# Altium schematic symbol library Transistors.SchLib: 43 symbols
Pins are listed as number, name and electrical type; pins without a type are passive.

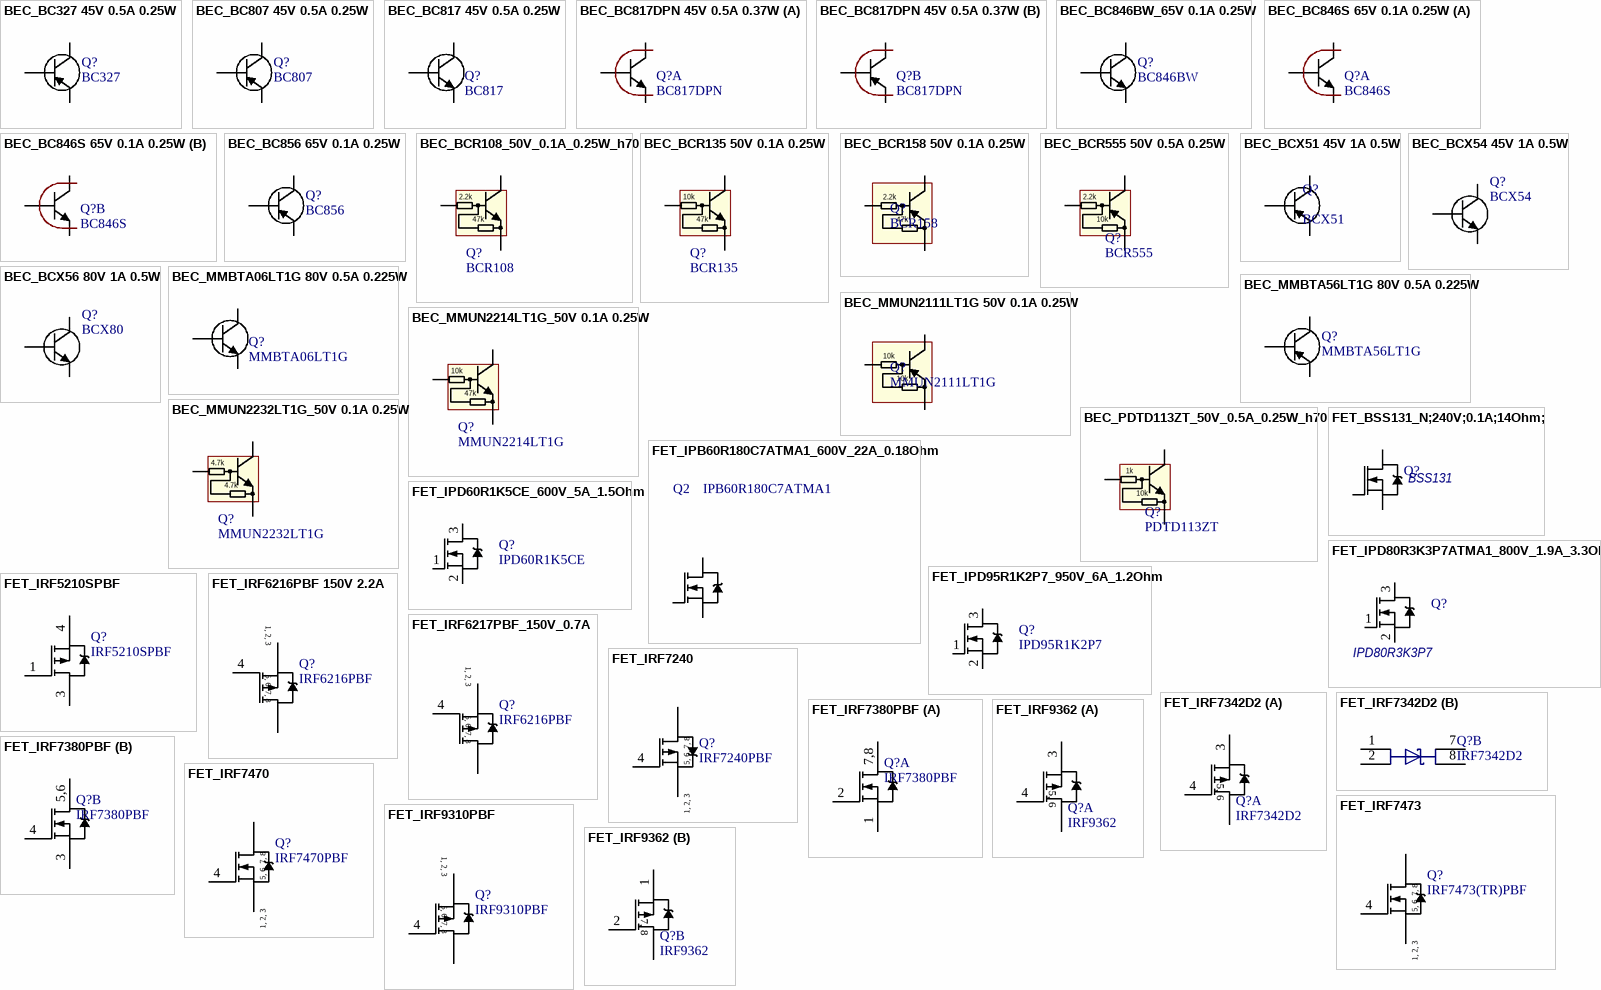
[diagram p0: symbols BEC_BC327 45V 0.5A 0.25W to FET_IRF9362]

## BEC_BC327 45V 0.5A 0.25W
designator Q?, comment BC327
Транзистор PNP; Variant1: BC337 (h=100-600); Variant2: BC327-16 (h=100-250); Variant3: BC327-25 (h=160-400); Variant4: BC327-40 (h=250-600); HelpURL: \\fileserver\библиотека\Unicont SPb\Equipment\Техническая документация\BC807_BC807W_BC327.pdf
footprint TO_92 LINE (TO, Flat Index; 3 In-Line, Axial Leads; Body Dia. 4.6mm; Leads 0.41 x 0.39 mm (max))
pins: 1 E, 2 B, 3 C

## BEC_BC807 45V 0.5A 0.25W
designator Q?, comment BC807
Транзистор PNP; Variant1: BC807 (h=100-600); Variant2: BC807-16 (h=100-250); Variant3: BC807-25 (h=160-400); Variant4: BC807-40 (h=250-600); HelpURL: \\fileserver\библиотека\Unicont SPb\Equipment\Техническая документация\BC807_BC807W_BC327.pdf; Price, $: 0.015
footprint SOT_23 (SOT-23; 3 Leads; Body 3.0 x 2.5 mm, inc. leads (LxW max))
pins: 1 B, 2 E, 3 C

## BEC_BC817 45V 0.5A 0.25W
designator Q?, comment BC817
Транзистор NPN; Variant1: BC817 (h=100-600); Variant2: BC817-16 (h=100-250); Variant3: BC817-25 (h=160-400); Variant4: BC817-40 (h=250-600); HelpURL: L:\Dev\Техническая документация\BC817_BC817W_BC337.pdf; Price, $: 0.025
footprint SOT_23 (SOT-23; 3 Leads; Body 3.0 x 2.5 mm, inc. leads (LxW max))
pins: 1 B, 2 E, 3 C

## BEC_BC817DPN 45V 0.5A 0.37W
designator Q?, comment BC817DPN
Транзистор NPN; HelpURL: http://www.nxp.com/documents/data_sheet/BC817DPN.pdf
footprint SOT_23-6
part A pins: 1 E1, 2 B1, 6 C1
part B pins: 3 C2, 4 E2, 5 B2

## BEC_BC846BW_65V 0.1A 0.25W
designator Q?, comment BC846BW
Транзистор PNP; Variant1: h=200-450; HelpURL: L:\Dev\Техническая документация\Транзисторы\NPN\BC846_SER.pdf; Price, $: 0.015
footprint SOT_23 (SOT-23; 3 Leads; Body 3.0 x 2.5 mm, inc. leads (LxW max))
pins: 1 B, 2 E, 3 C

## BEC_BC846S 65V 0.1A 0.25W
designator Q?, comment BC846S
Транзистор NPN; Variant1: BC817 (h=100-600); Variant2: BC817-16 (h=100-250); Variant3: BC817-25 (h=160-400); Variant4: BC817-40 (h=250-600); HelpURL: L:\Dev\Техническая документация\Транзисторы\два в одном\BC846S.pdf
footprint SC_70-6 (SC70-6; SOT-363)
part A pins: 1 E1, 2 B1, 6 C1
part B pins: 3 C2, 4 E2, 5 B2

## BEC_BC856 65V 0.1A 0.25W
designator Q?, comment BC856
Транзистор PNP; Variant1: BC807 (h=125-475); Variant2: BC807A (h=125-250); Variant3: BC807B (h=220-475); HelpURL: L:\Dev\Техническая документация\Транзисторы\PNP\BC856_BC857_BC858.pdf
footprint SOT_23 (SOT-23; 3 Leads; Body 3.0 x 2.5 mm, inc. leads (LxW max))
pins: 1 B, 2 E, 3 C

## BEC_BCR108_50V_0.1A_0.25W_h70
designator Q?, comment BCR108
NPN Digital Transistor; Published: 17-Sep-2003; DatasheetDocument: Jun-1999; PackageDocument: May-1999; PackageReference: SOT23; Publisher: Altium Limited
footprint SOT_23 (SOT-23; 3 Leads; Body 3.0 x 2.5 mm, inc. leads (LxW max))
pins: 1 B, 2 E, 3 C
text: 2.2k; 47k

## BEC_BCR135 50V 0.1A 0.25W
designator Q?, comment BCR135
NPN Digital Transistor; Published: 17-Sep-2003; DatasheetDocument: Jun-1999; PackageDocument: May-1999; PackageReference: SOT23; Publisher: Altium Limited
footprint SOT_23 (SOT-23; 3 Leads; Body 3.0 x 2.5 mm, inc. leads (LxW max))
pins: 1 B, 2 E, 3 C
text: 10k; 47k

## BEC_BCR158 50V 0.1A 0.25W
designator Q?, comment BCR158
PNP Digital Transistor; Published: 17-Sep-2003; DatasheetDocument: Jun-1999; PackageDocument: May-1999; PackageReference: SOT23; Publisher: Altium Limited
footprint SOT_23 (SOT-23; 3 Leads; Body 3.0 x 2.5 mm, inc. leads (LxW max))
pins: 1 B, 2 E, 3 C
text: 2.2k; 47k

## BEC_BCR555 50V 0.5A 0.25W
designator Q?, comment BCR555
PNP Digital Transistor
footprint SOT_23 (SOT-23; 3 Leads; Body 3.0 x 2.5 mm, inc. leads (LxW max))
pins: 1 B, 2 E, 3 C
text: 2.2k; 10k

## BEC_BCX51 45V 1A 0.5W
designator Q?, comment BCX51
Analog: BCX53
footprint SOT_89 (SOT89, 3-Leads, Body 4.50x2.50mm, Pitch 1.50mm, Lead Span 3.3mm, IPC Medium Density)
pins: 1 E, 2 C, 3 B

## BEC_BCX54 45V 1A 0.5W
designator Q?, comment BCX54
NPN Medium Power Transistor; Published: 17-Sep-2003; DatasheetDocument: 10-Oct-2001; PackageDocument: Aug-2001; PackageReference: SOT223; Publisher: Altium Limited; HelpURL: L:\Dev\Техническая документация\Транзисторы\NPN\BCP54_BCX54_BC54PA.pdf
footprint SOT_89 (SOT89, 3-Leads, Body 4.50x2.50mm, Pitch 1.50mm, Lead Span 3.3mm, IPC Medium Density)
signal-integrity model BCP56
footprint SOT_223
pins: 1 E, 2 C, 3 B

## BEC_BCX56 80V 1A 0.5W
designator Q?, comment BCX80
NPN Medium Power Transistor; Published: 17-Sep-2003; DatasheetDocument: 10-Oct-2001; PackageDocument: Aug-2001; PackageReference: SOT223; Publisher: Altium Limited
footprint SOT_89 (SOT89, 3-Leads, Body 4.50x2.50mm, Pitch 1.50mm, Lead Span 3.3mm, IPC Medium Density)
signal-integrity model BCP56
footprint SOT_223
pins: 1 E, 2 C, 3 B

## BEC_MMBTA06LT1G 80V 0.5A 0.225W
designator Q?, comment MMBTA06LT1G
Транзистор NPN; HelpURL: http://www.onsemi.ru.com/pub_link/Collateral/MMBTA05LT1-D.PDF
footprint SOT_23 (SOT-23; 3 Leads; Body 3.0 x 2.5 mm, inc. leads (LxW max))
pins: 1 B, 2 E, 3 C

## BEC_MMBTA56LT1G 80V 0.5A 0.225W
designator Q?, comment MMBTA56LT1G
Транзистор PNP; HelpURL: http://www.onsemi.ru.com/pub_link/Collateral/MMBTA55LT1-D.PDF
footprint SOT_23 (SOT-23; 3 Leads; Body 3.0 x 2.5 mm, inc. leads (LxW max))
pins: 1 B, 2 E, 3 C

## BEC_MMUN2111LT1G 50V 0.1A 0.25W
designator Q?, comment MMUN2111LT1G
PNP Digital Transistor; Published: 17-Sep-2003; DatasheetDocument: Jun-1999; PackageDocument: May-1999; PackageReference: SOT23; Publisher: Altium Limited; Price, $: 0.015
footprint SOT_23 (SOT-23; 3 Leads; Body 3.0 x 2.5 mm, inc. leads (LxW max))
pins: 1 B, 2 E, 3 C
text: 10k

## BEC_MMUN2214LT1G_50V 0.1A 0.25W
designator Q?, comment MMUN2214LT1G
NPN Digital Transistor; Published: 17-Sep-2003; DatasheetDocument: Jun-1999; PackageDocument: May-1999; PackageReference: SOT23; Publisher: Altium Limited
footprint SOT_23 (SOT-23; 3 Leads; Body 3.0 x 2.5 mm, inc. leads (LxW max))
pins: 1 B, 2 E, 3 C
text: 10k; 47k

## BEC_MMUN2232LT1G_50V 0.1A 0.25W
designator Q?, comment MMUN2232LT1G
NPN Digital Transistor; Published: 17-Sep-2003; DatasheetDocument: Jun-1999; PackageDocument: May-1999; PackageReference: SOT23; Publisher: Altium Limited
footprint SOT_23 (SOT-23; 3 Leads; Body 3.0 x 2.5 mm, inc. leads (LxW max))
pins: 1 B, 2 E, 3 C
text: 4.7k

## BEC_PDTD113ZT_50V_0.5A_0.25W_h70
designator Q?, comment PDTD113ZT
NPN Digital Transistor; Price, $: 0.04
footprint SOT_23 (SOT-23; 3 Leads; Body 3.0 x 2.5 mm, inc. leads (LxW max))
pins: 1 B, 2 E, 3 C
text: 1k; 10k

## FET_BSS131_N;240V;0.1A;14Ohm;
designator Q?, comment value BSS131  (hidden comment: BSS131H6327XTSA1)
MOSFET Nch Id=0.1A;Rds=14Ohm;Uds=240V; Ugs: 20V; Id: 0.1A; Rds(Vgs=10V): 14Ohm; Vds: 240V; HelpURL: L:\Dev\Техническая документация\Транзисторы\MOSFET\N-канальные\Infineon\BSS131_240V_0.1A_14Ohm.pdf
footprint SOT_23 (SOT-23; 3 Leads; Body 3.0 x 2.5 mm, inc. leads (LxW max))
pins: 1 G, 2 S, 3 D

## FET_IPB60R180C7ATMA1_600V_22A_0.18Ohm
designator Q2, comment IPB60R180C7ATMA1
HEXFET Power MOSFET; Vmax: 600V; Icontinuous: 22A; Rds: 0.18Ohm; HelpURL: L:\Dev\Техническая документация\Транзисторы\MOSFET\N-канальные\Infineon\IPB60R180C7_600V_22A_0.18Ohm.pdf; Price, $: 1.5
footprint TO_263
pins: 1 G, 3 S, 4 D

## FET_IPD60R1K5CE_600V_5A_1.5Ohm
designator Q?, comment IPD60R1K5CE
MOSFET Nch Id=5A;Rds=1.5Ohm;Ugs=600V; Ugs: 600V; Id: 5A; Rds(Vgs=10V): 1.5Ohm; HelpURL: L:\Dev\Техническая документация\Транзисторы\MOSFET\N-канальные\Infineon\600V_5A_1.5Ohm_ipd60r1k5ce.pdf
footprint D-PAK
pins: 1 G, 2 S, 3 D

## FET_IPD80R3K3P7ATMA1_800V_1.9A_3.3Ohm
designator Q?, comment value IPD80R3K3P7  (hidden comment: IPD80R3K3P7ATMA1, Infineon)
MOSFET Nch Id=1.9A;Rds=3.3Ohm;Ugs=800V; Ugs: 800V; Id: 1.9A; Rds(Vgs=10V): 3.3Ohm; HelpURL: L:\Dev\Техническая документация\Транзисторы\MOSFET\N-канальные\Infineon\800V_1.9A_3.3Ohm_IPD80R3K3P7ATMA1.pdf; Price: 0.5
footprint D-PAK
pins: 1 G, 2 S, 3 D

## FET_IPD95R1K2P7_950V_6A_1.2Ohm
designator Q?, comment IPD95R1K2P7
MOSFET Nch Id=5A;Rds=1.5Ohm;Ugs=650V; Ugs: 950V; Id: 6A; Rds(Vgs=10V): 1.2Ohm; HelpURL: L:\Dev\Техническая документация\Транзисторы\MOSFET\N-канальные\Infineon\950V_6A_1.2Ohm_ipd95r1k2p7atma1.pdf; Price: 0.5
footprint D-PAK
pins: 1 G, 2 S, 3 D

## FET_IRF5210SPBF
designator Q?, comment IRF5210SPBF
MOSFET Pch Id=-40A;Uds=-100;Rds=60mOhm;Ugs=20V; Ugs: 20V; Id: -20A; Rds(Vgs=10V): 4.6mOhm; Uds: -100V
footprint TO_263
pins: 1 G, 3 D, 4 S

## FET_IRF6216PBF 150V 2.2A
designator Q?, comment IRF6216PBF
MOSFET Pch Id=-2.2A;Rds=240mOhm;Ugs=150V; Ugs: 150V; Id: -2.2A; Rds(Vgs=10V): 240mOhm; HelpURL: L:\Dev\Техническая документация\Транзисторы\MOSFET\P-канальные\
footprint SO_8 (SOIC, 8-Leads, Body 4,90x3,90mm, Pitch 1,27mm, IPC Medium Density)
pins: 1 S, 2 S, 3 S, 4 G, 5 D, 6 D, 7 D, 8 D
text: 1, 2, 3; 5, 6, 7, 8

## FET_IRF6217PBF_150V_0.7A
designator Q?, comment IRF6216PBF
MOSFET Pch Id=-0.7A;Rds=2.4Ohm;Ugs=150V;Qg=9nC;; Ugs: 150V; Id: -0.7A; Rds(Vgs=10V): 2.4Ohm; Qg: 9.0nC; HelpURL: L:\Dev\Техническая документация\Транзисторы\MOSFET\P-канальные\irf6217pbf_SO8_-0.7A_150V_2.4Ohm.pdf
footprint SO_8 (SOIC, 8-Leads, Body 4,90x3,90mm, Pitch 1,27mm, IPC Medium Density)
pins: 1 S, 2 S, 3 S, 4 G, 5 D, 6 D, 7 D, 8 D
text: 1, 2, 3; 5, 6, 7, 8

## FET_IRF7240
designator Q?, comment IRF7240PBF
MOSFET Pch Id=6.9A;Rds=26mOhm;Ugs=100V; Ugs: 40V; Id: -10.5A; Rds(Vgs=10V): 25mOhm
footprint SO_8 (SOIC, 8-Leads, Body 4,90x3,90mm, Pitch 1,27mm, IPC Medium Density)
pins: 1 S, 2 S, 3 S, 4 G, 5 D, 6 D, 7 D, 8 D
text: 5, 6, 7, 8; 1, 2, 3

## FET_IRF7342D2
designator Q?, comment IRF7342D2
MOSFET Pch Id=-20A;Rds=4.6mOhm;Ugs=20V; Ugs: 20V; Id: -20A; Rds(Vgs=10V): 4.6mOhm
footprint SO_8 (SOIC, 8-Leads, Body 4,90x3,90mm, Pitch 1,27mm, IPC Medium Density)
part A pins: 3 S, 4 G, 5 D, 6 D
part B pins: 1 A, 2 A, 7 C, 8 C
part A text: 5, 6

## FET_IRF7380PBF
designator Q?, comment IRF7380PBF
HEXFET Power MOSFET; Ugs: 20V; Id: 3.6A; Rds(Vgs=10V): 73mOhm; Vds: 80
footprint SO_8 (SOIC, 8-Leads, Body 4,90x3,90mm, Pitch 1,27mm, IPC Medium Density)
part A pins: 1 S1, 2 G1, 7 D1, 8 D1
part B pins: 3 S2, 4 G2, 5 D2, 6 D2
part A text: 7,8
part B text: 5,6

## FET_IRF7470
designator Q?, comment IRF7470PBF
MOSFET Nch Id=10A;Rds=13mOhm;Ugs=40V; Ugs: 40V; Id: 10A; Rds(Vgs=10V): 13mOhm
footprint SO_8 (SOIC, 8-Leads, Body 4,90x3,90mm, Pitch 1,27mm, IPC Medium Density)
pins: 1 S, 2 S, 3 S, 4 G, 5 D, 6 D, 7 D, 8 D
text: 5, 6, 7, 8; 1, 2, 3

## FET_IRF7473
designator Q?, comment IRF7473(TR)PBF
MOSFET Nch Id=6.9A;Rds=26mOhm;Ugs=100V; Ugs: 100V; Id: 6.9A; Rds(Vgs=10V): 26mOhm
footprint SO_8 (SOIC, 8-Leads, Body 4,90x3,90mm, Pitch 1,27mm, IPC Medium Density)
pins: 1 S, 2 S, 3 S, 4 G, 5 D, 6 D, 7 D, 8 D
text: 5, 6, 7, 8; 1, 2, 3

## FET_IRF9310PBF
designator Q?, comment IRF9310PBF
MOSFET Pch Id=-20A;Rds=4.6mOhm;Ugs=20V; Ugs: 20V; Id: -20A; Rds(Vgs=10V): 4.6mOhm
footprint SO_8 (SOIC, 8-Leads, Body 4,90x3,90mm, Pitch 1,27mm, IPC Medium Density)
pins: 1 S, 2 S, 3 S, 4 G, 5 D, 6 D, 7 D, 8 D
text: 1, 2, 3; 5, 6, 7, 8

## FET_IRF9362
designator Q?, comment IRF9362
MOSFET Pch Id=-8A;Rds=21mOhm;Uds=-30V; Uds: -30V; Id: -8A; Rds(Vgs=10V): 21mOhm
footprint SO_8 (SOIC, 8-Leads, Body 4,90x3,90mm, Pitch 1,27mm, IPC Medium Density)
part A pins: 3 S, 4 G, 5 D, 6 D
part B pins: 1 S, 2 G, 7 D, 8 D
part A text: 5, 6
part B text: 7, 8

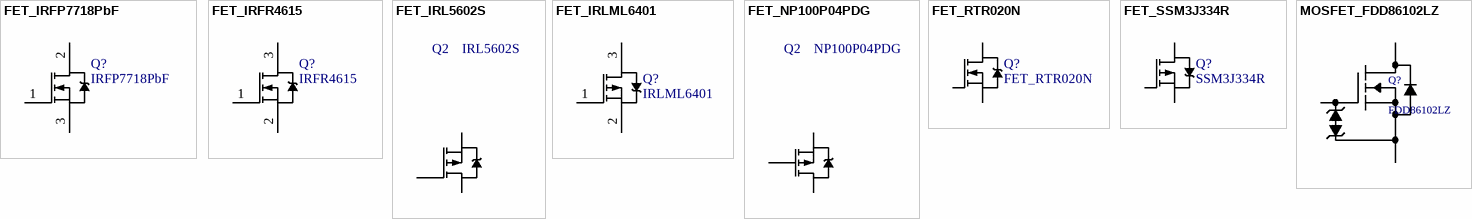
[diagram p1: symbols FET_IRFP7718PbF to MOSFET_FDD86102LZ]

## FET_IRFP7718PbF
designator Q?, comment IRFP7718PbF
MOSFET Nch Id=195A;Rds=1.8mOhm;Ugs=75V; Ugs: 75V; Id: 195A; Rds(Vgs=10V): 1.8mOhm; HelpURL: L:\Dev\Техническая документация\Транзисторы\MOSFET\N-канальные\irfp7718pbf.pdf
footprint TO_247AC
pins: 1 G, 2 D, 3 S

## FET_IRFR4615
designator Q?, comment IRFR4615
MOSFET Nch Id=33A;Rds=42mOhm;Ugs=150V; Ugs: 150V; Id: 33A; Rds(Vgs=10V): 42mOhm
footprint D-PAK
pins: 1 G, 2 S, 3 D

## FET_IRL5602S
designator Q2, comment IRL5602S
HEXFET Power MOSFET; Analog: NP100P04PDG; Published: 8-Jun-2000; LatestRevisionDate: 17-Jul-2002; LatestRevisionNote: Re-released for DXP Platform.; DatasheetDocument: Aug-1997; PackageReference: D2PAK; Publisher: Altium Limited
footprint TO_263
pins: 1 G, 3 S, 4 D

## FET_IRLML6401
designator Q?, comment IRLML6401
MOSFET Pch Id=3.4A;Rds=50mOhm;Uds=12V; Ugs: 12V; Id: -3.4A; Rds(Vgs=10V): 50mOhm
footprint SOT_23 (SOT-23; 3 Leads; Body 3.0 x 2.5 mm, inc. leads (LxW max))
pins: 1 G, 2 S, 3 D

## FET_NP100P04PDG
designator Q2, comment NP100P04PDG
HEXFET Power MOSFET; Analog: IRL5602S; Published: 8-Jun-2000; LatestRevisionDate: 17-Jul-2002; LatestRevisionNote: Re-released for DXP Platform.; DatasheetDocument: Aug-1997; PackageReference: D2PAK; Publisher: Altium Limited
footprint TO_263
pins: 1 G, 3 S, 4 D

## FET_RTR020N
designator Q?
MOSFET Nch Id=2A;Rds=180mOhm;Uds=45V; Ugs: 12V; Id: 2A; Vds: 45V; Analog: SSM3K339R, Toshiba; Rds(Vgs=10V): 180mOhm; HelpURL: L:\Dev\Техническая документация\Транзисторы\MOSFET\Малосигнальные\RTR020N.pdf; ComponentLink1Description: Analog1_SSM3K339R; ComponentLink1URL: L:\Dev\Техническая документация\Транзисторы\MOSFET\Малосигнальные\SSM3K339R_Toshiba_wSUP.pdf
footprint SOT_23 (SOT-23; 3 Leads; Body 3.0 x 2.5 mm, inc. leads (LxW max))
pins: 1 G, 2 S, 3 D

## FET_SSM3J334R
designator Q?, comment SSM3J334R
MOSFET Pch Id=4A;Rds=140mOhm;Uds=40V; Ugs: 20V; Id: 2A; Rds(Vgs=10V): 140mOhm x 4V; Vds: 40V; HelpURL: L:\Dev\Техническая документация\Транзисторы\MOSFET\Малосигнальные\P-channel\SSM3J334R_Toshiba_wSUP.pdf
footprint SOT_23 (SOT-23; 3 Leads; Body 3.0 x 2.5 mm, inc. leads (LxW max))
pins: 1 G, 2 S, 3 D

## MOSFET_FDD86102LZ
designator Q?, comment FDD86102LZ
MOSFET N-CHANNEL 100V 8A; URL: https://www.chipdip.ru/product/fdd86102lz-mosfet-n-channel-100v-8a
footprint D-PAK
pins: 1 G, 2 S, 3 D